# EAGLE library part ATTINY4313 (library MicroControl)
ATTINY4313
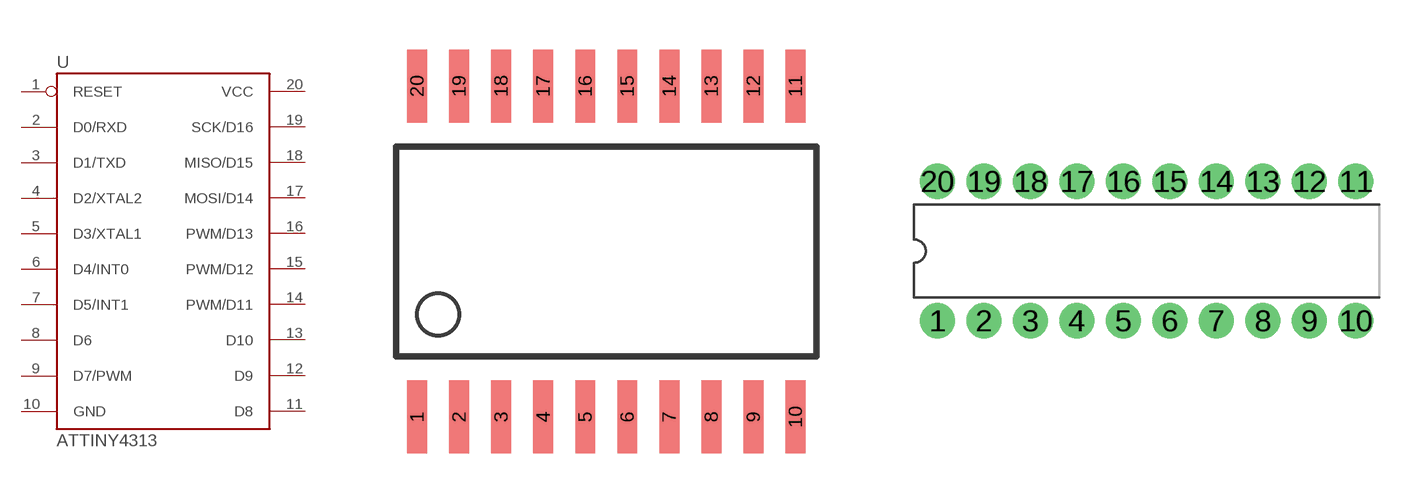
[diagram p4: symbol with the pads of SOP20W; footprints SOP20W, DIL20]

Designator prefix U

## ATTINY4313ATTINY4313-SOP20W (VALUE: ATTINY4313)  [SOP20W]
1  RESET
2  D0/RXD
3  D1/TXD
4  D2/XTAL2
5  D3/XTAL1
6  D4/INT0
7  D5/INT1
8  D6
9  D7/PWM
10  GND
11  D8
12  D9
13  D10
14  PWM/D11
15  PWM/D12
16  PWM/D13
17  MOSI/D14
18  MISO/D15
19  SCK/D16
20  VCC

## ATTINY4313ATTINY4313-DIL20  [DIL20]
Pads as for SOP20W

## Footprint SOP20W (pad centres in mm)
SMALL OUTLINE PACKAGE
smd 0.6 x 2.2: 1 -5.715,-5; 2 -4.445,-5; 3 -3.175,-5; 4 -1.905,-5; 5 -0.635,-5; 6 0.635,-5; 7 1.905,-5; 8 3.175,-5; 9 4.445,-5; 10 5.715,-5; 11 5.715,5; 12 4.445,5; 13 3.175,5; 14 1.905,5; 15 0.635,5; 16 -0.635,5; 17 -1.905,5; 18 -3.175,5; 19 -4.445,5; 20 -5.715,5

## Footprint DIL20 (pad centres in mm)
drill 1.016 pad 1.93: 1 1.27,2.54; 2 3.81,2.54; 3 6.35,2.54; 4 8.89,2.54; 5 11.43,2.54; 6 13.97,2.54; 7 16.51,2.54; 8 19.05,2.54; 9 21.59,2.54; 10 24.13,2.54; 11 24.13,10.16; 12 21.59,10.16; 13 19.05,10.16; 14 16.51,10.16; 15 13.97,10.16; 16 11.43,10.16; 17 8.89,10.16; 18 6.35,10.16; 19 3.81,10.16; 20 1.27,10.16